# Altium schematic symbol library Oscillator - Crystal.SchLib: 422 symbols (part 6 of 7)
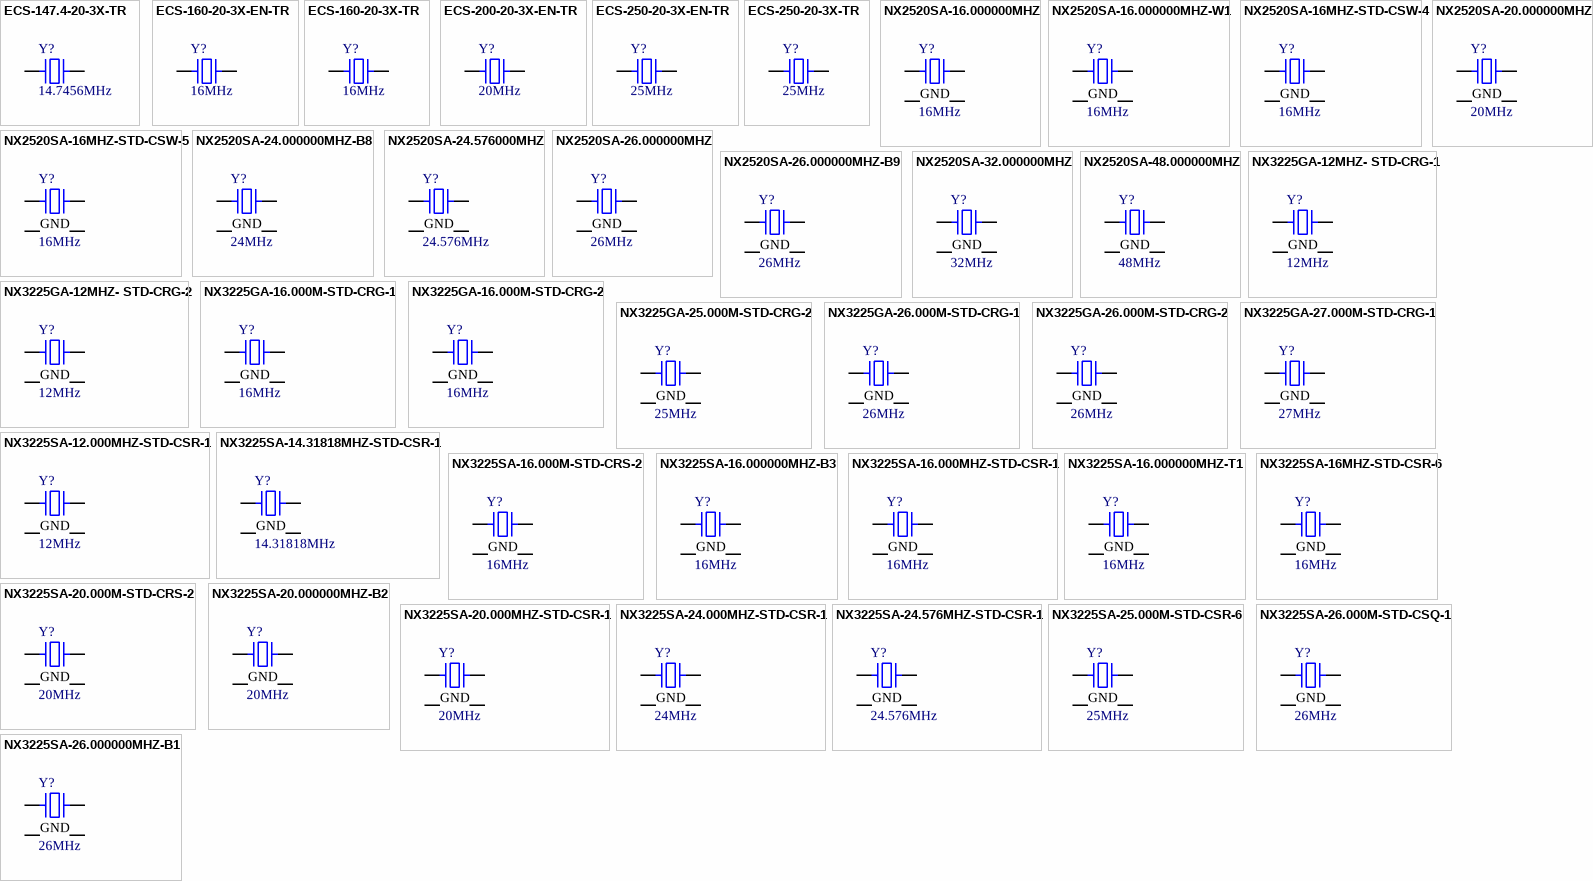
[diagram p15: symbols ECS-147.4-20-3X-TR to NX3225SA-26.000000MHZ-B1]

## NX2520SA-26.000000MHZ-B9
designator Y?, comment 26MHz
CRYSTAL 26.0000MHZ 10PF SMD; Part Number: NX2520SA-26.000000MHZ-B9; Manufacturer: NDK; Frequency Stability: 10ppm; ESR: 100 Ohm; Operating Mode: Fundamental; PartId: 8502; Supplier 1: Digi-Key; Supplier Part Number 1: 644-1095-2-ND; ComponentLink1Description: Datasheet; ComponentLink1URL: http://media.digikey.com/pdf/Data Sheets/NDK PDFs/NX2520SA-26.000000MHz-B9.pdf; ComponentLink2Description: Digi-Key Listing; ComponentLink2URL: http://www.digikey.com/product-detail/en/NX2520SA-26.000000MHZ-B9/644-1095-2-ND/1468336; Price: 0.7938; Type: MHz Crystal; Device Package: 4-SMD, No Lead (DFN, LCC); Frequency: 26MHz; Frequency Tolerance: 10ppm; Load Capacitance: 10pF
footprint NDK NX2520SA
pins: 1, 2 GND, 3, 4 GND

## NX2520SA-32.000000MHZ
designator Y?, comment 32MHz
CRYSTAL 32.0000MHZ 10PF SMD; Part Number: NX2520SA-32.000000MHZ; Manufacturer: NDK; Frequency Stability: 10ppm; ESR: 50 Ohm; Operating Mode: Fundamental; PartId: 8495; Supplier 1: Digi-Key; Supplier Part Number 1: 644-1065-2-ND; ComponentLink1Description: Datasheet; ComponentLink1URL: http://media.digikey.com/pdf/Data%20Sheets/NDK%20PDFs/NX2520SA.pdf; ComponentLink2Description: Digi-Key Listing; ComponentLink2URL: http://www.digikey.com/product-detail/en/NX2520SA-32.000000MHZ/644-1065-2-ND/1128847; Price: 0.7336; Type: MHz Crystal; Device Package: 4-SMD, No Lead (DFN, LCC); Frequency: 32MHz; Frequency Tolerance: 10ppm; Load Capacitance: 10pF
footprint NDK NX2520SA
pins: 1, 2 GND, 3, 4 GND

## NX2520SA-48.000000MHZ
designator Y?, comment 48MHz
CRYSTAL 48.0000MHZ 10PF SMD; Part Number: NX2520SA-48.000000MHZ; Manufacturer: NDK; Frequency Stability: 10ppm; ESR: 50 Ohm; Operating Mode: Fundamental; PartId: 8503; Supplier 1: Digi-Key; Supplier Part Number 1: 644-1068-2-ND; ComponentLink1Description: Datasheet; ComponentLink1URL: http://media.digikey.com/pdf/Data%20Sheets/NDK%20PDFs/NX2520SA.pdf; ComponentLink2Description: Digi-Key Listing; ComponentLink2URL: http://www.digikey.com/product-detail/en/NX2520SA-48.000000MHZ/644-1068-2-ND/1128850; Price: 0.7938; Type: MHz Crystal; Device Package: 4-SMD, No Lead (DFN, LCC); Frequency: 48MHz; Frequency Tolerance: 10ppm; Load Capacitance: 10pF
footprint NDK NX2520SA
pins: 1, 2 GND, 3, 4 GND

## NX3225GA-12MHZ- STD-CRG-1
designator Y?, comment 12MHz
CRYSTAL 12.0000MHZ 8PF SMD; Part Number: NX3225GA-12MHZ- STD-CRG-1; Manufacturer: NDK; Frequency Stability: 30ppm; Frequency Tolerance: 20ppm; ESR: 100 Ohm; Operating Mode: Fundamental; PartId: 8793; Supplier 1: Digi-Key; Supplier Part Number 1: 644-1172-2-ND; ComponentLink1Description: Datasheet; ComponentLink1URL: http://www.ndk.com/images/products/catalog/c_NX3225GA-STD-CRG-1_e.pdf; ComponentLink2Description: Digi-Key Listing; ComponentLink2URL: https://www.digikey.com/product-detail/en/NX3225GA-12MHZ-%20STD-CRG-1/644-1172-2-ND/3125631; Price: 0.3465; Type: MHz Crystal; Device Package: 4-SMD, No Lead (DFN, LCC); Series: NX3225GA; Frequency: 12MHz; Load Capacitance: 8pF
footprint ABRACON ABM8G
pins: 1, 2 GND, 3, 4 GND

## NX3225GA-12MHZ- STD-CRG-2
designator Y?, comment 12MHz
CRYSTAL 12.0000MHZ 8PF SMD; Part Number: NX3225GA-12MHZ- STD-CRG-2; Manufacturer: NDK; Frequency Stability: 30ppm; Frequency Tolerance: 20ppm; ESR: 100 Ohm; Operating Mode: Fundamental; PartId: 8788; Supplier 1: Digi-Key; Supplier Part Number 1: 644-1173-2-ND; ComponentLink1Description: Datasheet; ComponentLink1URL: http://www.ndk.com/images/products/catalog/c_NX3225GA-STD-CRG-2_e.pdf; ComponentLink2Description: Digi-Key Listing; ComponentLink2URL: https://www.digikey.com/product-detail/en/NX3225GA-12MHZ-%20STD-CRG-2/644-1173-2-ND/3125632; Price: 0.3465; Type: MHz Crystal; Device Package: 4-SMD, No Lead (DFN, LCC); Series: NX3225GA; Frequency: 12MHz; Load Capacitance: 8pF
footprint ABRACON ABM8G
pins: 1, 2 GND, 3, 4 GND

## NX3225GA-16.000M-STD-CRG-1
designator Y?, comment 16MHz
CRYSTAL 16.0000MHZ 8PF SMD; Part Number: NX3225GA-16.000M-STD-CRG-1; Manufacturer: NDK; Frequency Stability: 30ppm; Frequency Tolerance: 20ppm; ESR: 80 Ohm; Operating Mode: Fundamental; PartId: 8790; Supplier 1: Digi-Key; Supplier Part Number 1: 644-1157-2-ND; ComponentLink1Description: Datasheet; ComponentLink1URL: http://www.ndk.com/images/products/catalog/c_NX3225GA-STD-CRG-1_e.pdf; ComponentLink2Description: Digi-Key Listing; ComponentLink2URL: https://www.digikey.com/product-detail/en/NX3225GA-16.000M-STD-CRG-1/644-1157-2-ND/2261470; Price: 0.3465; Type: MHz Crystal; Device Package: 4-SMD, No Lead (DFN, LCC); Series: NX3225GA; Frequency: 16MHz; Load Capacitance: 8pF
footprint ABRACON ABM8G
pins: 1, 2 GND, 3, 4 GND

## NX3225GA-16.000M-STD-CRG-2
designator Y?, comment 16MHz
CRYSTAL 16.0000MHZ 8PF SMD; Part Number: NX3225GA-16.000M-STD-CRG-2; Manufacturer: NDK; Frequency Stability: 30ppm; Frequency Tolerance: 20ppm; ESR: 80 Ohm; Operating Mode: Fundamental; PartId: 8789; Supplier 1: Digi-Key; Supplier Part Number 1: 644-1175-2-ND; ComponentLink1Description: Datasheet; ComponentLink1URL: http://www.ndk.com/images/products/catalog/c_NX3225GA-STD-CRG-2_e.pdf; ComponentLink2Description: Digi-Key Listing; ComponentLink2URL: https://www.digikey.com/product-detail/en/NX3225GA-16.000M-STD-CRG-2/644-1175-2-ND/3125634; Price: 0.3465; Type: MHz Crystal; Device Package: 4-SMD, No Lead (DFN, LCC); Series: NX3225GA; Frequency: 16MHz; Load Capacitance: 8pF
footprint ABRACON ABM8G
pins: 1, 2 GND, 3, 4 GND

## NX3225GA-25.000M-STD-CRG-2
designator Y?, comment 25MHz
CRYSTAL 25.0000MHZ 8PF SMD; Part Number: NX3225GA-25.000M-STD-CRG-2; Manufacturer: NDK; Frequency Stability: 30ppm; Frequency Tolerance: 20ppm; ESR: 50 Ohm; Operating Mode: Fundamental; PartId: 8791; Supplier 1: Digi-Key; Supplier Part Number 1: 644-1259-2-ND; ComponentLink1Description: Datasheet; ComponentLink1URL: http://www.ndk.com/images/products/catalog/c_NX3225GA-STD-CRG-2_e.pdf; ComponentLink2Description: Digi-Key Listing; ComponentLink2URL: https://www.digikey.com/product-detail/en/NX3225GA-25.000M-STD-CRG-2/644-1259-2-ND/5022963; Price: 0.291; Type: MHz Crystal; Device Package: 4-SMD, No Lead (DFN, LCC); Series: NX3225GA; Frequency: 25MHz; Load Capacitance: 8pF
footprint ABRACON ABM8G
pins: 1, 2 GND, 3, 4 GND

## NX3225GA-26.000M-STD-CRG-1
designator Y?, comment 26MHz
CRYSTAL 26.0000MHZ 8PF SMD; Part Number: NX3225GA-26.000M-STD-CRG-1; Manufacturer: NDK; Frequency Stability: 30ppm; Frequency Tolerance: 20ppm; ESR: 50 Ohm; Operating Mode: Fundamental; PartId: 8795; Supplier 1: Digi-Key; Supplier Part Number 1: 644-1260-2-ND; ComponentLink1Description: Datasheet; ComponentLink1URL: http://www.ndk.com/images/products/catalog/c_NX3225GA-STD-CRG-1_e.pdf; ComponentLink2Description: Digi-Key Listing; ComponentLink2URL: https://www.digikey.com/product-detail/en/NX3225GA-26.000M-STD-CRG-1/644-1260-2-ND/5022964; Price: 0.291; Type: MHz Crystal; Device Package: 4-SMD, No Lead (DFN, LCC); Series: NX3225GA; Frequency: 26MHz; Load Capacitance: 8pF
footprint ABRACON ABM8G
pins: 1, 2 GND, 3, 4 GND

## NX3225GA-26.000M-STD-CRG-2
designator Y?, comment 26MHz
CRYSTAL 26.0000MHZ 8PF SMD; Part Number: NX3225GA-26.000M-STD-CRG-2; Manufacturer: NDK; Frequency Stability: 30ppm; Frequency Tolerance: 20ppm; ESR: 50 Ohm; Operating Mode: Fundamental; PartId: 8792; Supplier 1: Digi-Key; Supplier Part Number 1: 644-1261-2-ND; ComponentLink1Description: Datasheet; ComponentLink1URL: http://www.ndk.com/images/products/catalog/c_NX3225GA-STD-CRG-2_e.pdf; ComponentLink2Description: Digi-Key Listing; ComponentLink2URL: https://www.digikey.com/product-detail/en/NX3225GA-26.000M-STD-CRG-2/644-1261-2-ND/5022965; Price: 0.291; Type: MHz Crystal; Device Package: 4-SMD, No Lead (DFN, LCC); Series: NX3225GA; Frequency: 26MHz; Load Capacitance: 8pF
footprint ABRACON ABM8G
pins: 1, 2 GND, 3, 4 GND

## NX3225GA-27.000M-STD-CRG-1
designator Y?, comment 27MHz
CRYSTAL 27.0000MHZ 8PF SMD; Part Number: NX3225GA-27.000M-STD-CRG-1; Manufacturer: NDK; Frequency Stability: 30ppm; Frequency Tolerance: 20ppm; ESR: 50 Ohm; Operating Mode: Fundamental; PartId: 8794; Supplier 1: Digi-Key; Supplier Part Number 1: 644-1158-2-ND; ComponentLink1Description: Datasheet; ComponentLink1URL: http://www.ndk.com/images/products/catalog/c_NX3225GA-STD-CRG-1_e.pdf; ComponentLink2Description: Digi-Key Listing; ComponentLink2URL: https://www.digikey.com/product-detail/en/NX3225GA-27.000M-STD-CRG-1/644-1158-2-ND/2261471; Price: 0.3465; Type: MHz Crystal; Device Package: 4-SMD, No Lead (DFN, LCC); Series: NX3225GA; Frequency: 27MHz; Load Capacitance: 8pF
footprint ABRACON ABM8G
pins: 1, 2 GND, 3, 4 GND

## NX3225SA-12.000MHZ-STD-CSR-1
designator Y?, comment 12MHz
CRYSTAL 12.0000MHZ 8PF SMD; Part Number: NX3225SA-12.000MHZ-STD-CSR-1; Manufacturer: NDK; Frequency Stability: 15ppm; ESR: 100 Ohm; Operating Mode: Fundamental; PartId: 8505; Supplier 1: Digi-Key; Supplier Part Number 1: 644-1047-2-ND; ComponentLink1Description: Datasheet; ComponentLink1URL: http://media.digikey.com/pdf/Data%20Sheets/NDK%20PDFs/NX3225SA.pdf; ComponentLink2Description: Digi-Key Listing; ComponentLink2URL: http://www.digikey.com/product-detail/en/NX3225SA-12.000MHZ-STD-CSR-1/644-1047-2-ND/1128829; Price: 0.3799; Type: MHz Crystal; Device Package: 4-SMD, No Lead (DFN, LCC); Frequency: 12MHz; Frequency Tolerance: 15ppm; Load Capacitance: 8pF
footprint NDK NX3225SA
pins: 1, 2 GND, 3, 4 GND

## NX3225SA-14.31818MHZ-STD-CSR-1
designator Y?, comment 14.31818MHz
CRYSTAL 14.31818MHZ 8PF SMD; Part Number: NX3225SA-14.31818MHZ-STD-CSR-1; Manufacturer: NDK; Frequency Stability: 15ppm; ESR: 80 Ohm; Operating Mode: Fundamental; PartId: 8506; Supplier 1: Digi-Key; Supplier Part Number 1: 644-1048-2-ND; ComponentLink1Description: Datasheet; ComponentLink1URL: http://media.digikey.com/pdf/Data%20Sheets/NDK%20PDFs/NX3225SA.pdf; ComponentLink2Description: Digi-Key Listing; ComponentLink2URL: http://www.digikey.com/product-detail/en/NX3225SA-14.31818MHZ-STD-CSR-1/644-1048-2-ND/1128830; Price: 0.3799; Type: MHz Crystal; Device Package: 4-SMD, No Lead (DFN, LCC); Frequency: 14.31818MHz; Frequency Tolerance: 15ppm; Load Capacitance: 8pF
footprint NDK NX3225SA
pins: 1, 2 GND, 3, 4 GND

## NX3225SA-16.000M-STD-CRS-2
designator Y?, comment 16MHz
CRYSTAL 16.0000MHZ 8PF SMD; Part Number: NX3225SA-16.000M-STD-CRS-2; Manufacturer: NDK; Frequency Stability: 50ppm; Frequency Tolerance: 15ppm; ESR: 120 Ohm; Operating Mode: Fundamental; PartId: 8511; Supplier 1: Digi-Key; Supplier Part Number 1: 644-1129-2-ND; ComponentLink1Description: Datasheet; ComponentLink1URL: http://www.ndk.com/images/products/catalog/c_NX3225SA-STD-CRS-2_e.pdf; ComponentLink2Description: Digi-Key Listing; ComponentLink2URL: http://www.digikey.com/product-detail/en/NX3225SA-16.000M-STD-CRS-2/644-1129-2-ND/1788469; Price: 0.5365; Type: MHz Crystal; Device Package: 4-SMD, No Lead (DFN, LCC); Frequency: 16MHz; Load Capacitance: 8pF
footprint NDK NX3225SA
pins: 1, 2 GND, 3, 4 GND

## NX3225SA-16.000000MHZ-B3
designator Y?, comment 16MHz
CRYSTAL 16.0000MHZ 7.2PF SMD; Part Number: NX3225SA-16.000000MHZ-B3; Manufacturer: NDK; Frequency Stability: 15ppm; Frequency Tolerance: 10ppm; ESR: 80 Ohm; Operating Mode: Fundamental; PartId: 8508; Supplier 1: Digi-Key; Supplier Part Number 1: 644-1099-2-ND; ComponentLink1Description: Datasheet; ComponentLink1URL: http://media.digikey.com/pdf/Data Sheets/NDK PDFs/NX3225SA-16.000000MHz-B3.pdf; ComponentLink2Description: Digi-Key Listing; ComponentLink2URL: http://www.digikey.com/product-detail/en/NX3225SA-16.000000MHZ-B3/644-1099-2-ND/1468340; Price: 0.4654; Type: MHz Crystal; Device Package: 4-SMD, No Lead (DFN, LCC); Frequency: 16MHz; Load Capacitance: 7.2pF
footprint NDK NX3225SA
pins: 1, 2 GND, 3, 4 GND

## NX3225SA-16.000MHZ-STD-CSR-1
designator Y?, comment 16MHz
CRYSTAL 16.0000MHZ 8PF SMD; Part Number: NX3225SA-16.000MHZ-STD-CSR-1; Manufacturer: NDK; Frequency Stability: 15ppm; ESR: 80 Ohm; Operating Mode: Fundamental; PartId: 8509; Supplier 1: Digi-Key; Supplier Part Number 1: 644-1049-2-ND; ComponentLink1Description: Datasheet; ComponentLink1URL: http://media.digikey.com/pdf/Data%20Sheets/NDK%20PDFs/NX3225SA.pdf; ComponentLink2Description: Digi-Key Listing; ComponentLink2URL: http://www.digikey.com/product-detail/en/NX3225SA-16.000MHZ-STD-CSR-1/644-1049-2-ND/1128831; Price: 0.3799; Type: MHz Crystal; Device Package: 4-SMD, No Lead (DFN, LCC); Frequency: 16MHz; Frequency Tolerance: 15ppm; Load Capacitance: 8pF
footprint NDK NX3225SA
pins: 1, 2 GND, 3, 4 GND

## NX3225SA-16.000000MHZ-T1
designator Y?, comment 16MHz
CRYSTAL 16.0000MHZ 10PF SMD; Part Number: NX3225SA-16.000000MHZ-T1; Manufacturer: NDK; Frequency Stability: 10ppm; ESR: 60 Ohm; Operating Mode: Fundamental; PartId: 8507; Supplier 1: Digi-Key; Supplier Part Number 1: 644-1100-2-ND; ComponentLink1Description: Datasheet; ComponentLink1URL: http://media.digikey.com/pdf/Data Sheets/NDK PDFs/NX3225SA-16.000000MHz-T1.pdf; ComponentLink2Description: Digi-Key Listing; ComponentLink2URL: http://www.digikey.com/product-detail/en/NX3225SA-16.000000MHZ-T1/644-1100-2-ND/1468341; Price: 0.4654; Type: MHz Crystal; Device Package: 4-SMD, No Lead (DFN, LCC); Frequency: 16MHz; Frequency Tolerance: 10ppm; Load Capacitance: 10pF
footprint NDK NX3225SA
pins: 1, 2 GND, 3, 4 GND

## NX3225SA-16MHZ-STD-CSR-6
designator Y?, comment 16MHz
CRYSTAL 16.0000MHZ 8PF SMD; Part Number: NX3225SA-16MHZ-STD-CSR-6; Manufacturer: NDK; Frequency Stability: 25ppm; Frequency Tolerance: 15ppm; ESR: 80 Ohm; Operating Mode: Fundamental; PartId: 8510; Supplier 1: Digi-Key; Supplier Part Number 1: 644-1182-2-ND; ComponentLink1Description: Datasheet; ComponentLink1URL: http://www.ndk.com/images/products/catalog/c_NX3225SA-STD-CSR-6_e.pdf; ComponentLink2Description: Digi-Key Listing; ComponentLink2URL: http://www.digikey.com/product-detail/en/NX3225SA-16MHZ-STD-CSR-6/644-1182-2-ND/3125641; Price: 0.4495; Type: MHz Crystal; Device Package: 4-SMD, No Lead (DFN, LCC); Frequency: 16MHz; Load Capacitance: 8pF
footprint NDK NX3225SA
pins: 1, 2 GND, 3, 4 GND

## NX3225SA-20.000M-STD-CRS-2
designator Y?, comment 20MHz
CRYSTAL 20.0000MHZ 8PF SMD; Part Number: NX3225SA-20.000M-STD-CRS-2; Manufacturer: NDK; Frequency Stability: 50ppm; Frequency Tolerance: 15ppm; ESR: 100 Ohm; Operating Mode: Fundamental; PartId: 8514; Supplier 1: Digi-Key; Supplier Part Number 1: 644-1130-2-ND; ComponentLink1Description: Datasheet; ComponentLink1URL: http://www.ndk.com/images/products/catalog/c_NX3225SA-STD-CRS-2_e.pdf; ComponentLink2Description: Digi-Key Listing; ComponentLink2URL: http://www.digikey.com/product-detail/en/NX3225SA-20.000M-STD-CRS-2/644-1130-2-ND/1788470; Price: 0.5794; Type: MHz Crystal; Device Package: 4-SMD, No Lead (DFN, LCC); Frequency: 20MHz; Load Capacitance: 8pF
footprint NDK NX3225SA
pins: 1, 2 GND, 3, 4 GND

## NX3225SA-20.000000MHZ-B2
designator Y?, comment 20MHz
CRYSTAL 20.0000MHZ 7.2PF SMD; Part Number: NX3225SA-20.000000MHZ-B2; Manufacturer: NDK; Frequency Stability: 15ppm; Frequency Tolerance: 10ppm; ESR: 80 Ohm; Operating Mode: Fundamental; PartId: 8512; Supplier 1: Digi-Key; Supplier Part Number 1: 644-1098-2-ND; ComponentLink1Description: Datasheet; ComponentLink1URL: http://media.digikey.com/pdf/Data Sheets/NDK PDFs/NX3225SA-20.000000MHz-B2.pdf; ComponentLink2Description: Digi-Key Listing; ComponentLink2URL: http://www.digikey.com/product-detail/en/NX3225SA-20.000000MHZ-B2/644-1098-2-ND/1468339; Price: 0.4654; Type: MHz Crystal; Device Package: 4-SMD, No Lead (DFN, LCC); Frequency: 20MHz; Load Capacitance: 7.2pF
footprint NDK NX3225SA
pins: 1, 2 GND, 3, 4 GND

## NX3225SA-20.000MHZ-STD-CSR-1
designator Y?, comment 20MHz
CRYSTAL 20.0000MHZ 8PF SMD; Part Number: NX3225SA-20.000MHZ-STD-CSR-1; Manufacturer: NDK; Frequency Stability: 15ppm; ESR: 50 Ohm; Operating Mode: Fundamental; PartId: 8513; Supplier 1: Digi-Key; Supplier Part Number 1: 644-1050-2-ND; ComponentLink1Description: Datasheet; ComponentLink1URL: http://media.digikey.com/pdf/Data%20Sheets/NDK%20PDFs/NX3225SA.pdf; ComponentLink2Description: Digi-Key Listing; ComponentLink2URL: http://www.digikey.com/product-detail/en/NX3225SA-20.000MHZ-STD-CSR-1/644-1050-2-ND/1128832; Price: 0.3799; Type: MHz Crystal; Device Package: 4-SMD, No Lead (DFN, LCC); Frequency: 20MHz; Frequency Tolerance: 15ppm; Load Capacitance: 8pF
footprint NDK NX3225SA
pins: 1, 2 GND, 3, 4 GND

## NX3225SA-24.000MHZ-STD-CSR-1
designator Y?, comment 24MHz
CRYSTAL 24.0000MHZ 8PF SMD; Part Number: NX3225SA-24.000MHZ-STD-CSR-1; Manufacturer: NDK; Frequency Stability: 15ppm; ESR: 50 Ohm; Operating Mode: Fundamental; PartId: 8515; Supplier 1: Digi-Key; Supplier Part Number 1: 644-1052-2-ND; ComponentLink1Description: Datasheet; ComponentLink1URL: http://media.digikey.com/pdf/Data%20Sheets/NDK%20PDFs/NX3225SA.pdf; ComponentLink2Description: Digi-Key Listing; ComponentLink2URL: http://www.digikey.com/product-detail/en/NX3225SA-24.000MHZ-STD-CSR-1/644-1052-2-ND/1128834; Price: 0.3799; Type: MHz Crystal; Device Package: 4-SMD, No Lead (DFN, LCC); Frequency: 24MHz; Frequency Tolerance: 15ppm; Load Capacitance: 8pF
footprint NDK NX3225SA
pins: 1, 2 GND, 3, 4 GND

## NX3225SA-24.576MHZ-STD-CSR-1
designator Y?, comment 24.576MHz
CRYSTAL 24.5760MHZ 8PF SMD; Part Number: NX3225SA-24.576MHZ-STD-CSR-1; Manufacturer: NDK; Frequency Stability: 15ppm; ESR: 50 Ohm; Operating Mode: Fundamental; PartId: 8516; Supplier 1: Digi-Key; Supplier Part Number 1: 644-1053-2-ND; ComponentLink1Description: Datasheet; ComponentLink1URL: http://media.digikey.com/pdf/Data%20Sheets/NDK%20PDFs/NX3225SA.pdf; ComponentLink2Description: Digi-Key Listing; ComponentLink2URL: http://www.digikey.com/product-detail/en/NX3225SA-24.576MHZ-STD-CSR-1/644-1053-2-ND/1128835; Price: 0.3799; Type: MHz Crystal; Device Package: 4-SMD, No Lead (DFN, LCC); Frequency: 24.576MHz; Frequency Tolerance: 15ppm; Load Capacitance: 8pF
footprint NDK NX3225SA
pins: 1, 2 GND, 3, 4 GND

## NX3225SA-25.000M-STD-CSR-6
designator Y?, comment 25MHz
CRYSTAL 25.0000MHZ 8PF SMD; Part Number: NX3225SA-25.000M-STD-CSR-6; Manufacturer: NDK; Frequency Stability: 25ppm; Frequency Tolerance: 15ppm; ESR: 50 Ohm; Operating Mode: Fundamental; PartId: 8517; Supplier 1: Digi-Key; Supplier Part Number 1: 644-1268-2-ND; ComponentLink1Description: Datasheet; ComponentLink1URL: http://www.ndk.com/images/products/catalog/c_NX3225SA-STD-CSR-6_e.pdf; ComponentLink2Description: Digi-Key Listing; ComponentLink2URL: http://www.digikey.com/product-detail/en/NX3225SA-25.000M-STD-CSR-6/644-1268-2-ND/2259775; Price: 0.3842; Type: MHz Crystal; Device Package: 4-SMD, No Lead (DFN, LCC); Frequency: 25MHz; Load Capacitance: 8pF
footprint NDK NX3225SA
pins: 1, 2 GND, 3, 4 GND

## NX3225SA-26.000M-STD-CSQ-1
designator Y?, comment 26MHz
CRYSTAL 26.0000MHZ 8PF SMD; Part Number: NX3225SA-26.000M-STD-CSQ-1; Manufacturer: NDK; Frequency Stability: 10ppm; ESR: 50 Ohm; Operating Mode: Fundamental; PartId: 8521; Supplier 1: Digi-Key; Supplier Part Number 1: 644-1269-2-ND; ComponentLink1Description: Datasheet; ComponentLink1URL: http://www.ndk.com/images/products/catalog/c_NX3225SA-STD-CSQ-1_e.pdf; ComponentLink2Description: Digi-Key Listing; ComponentLink2URL: http://www.digikey.com/product-detail/en/NX3225SA-26.000M-STD-CSQ-1/644-1269-2-ND/5022972; Price: 0.3842; Type: MHz Crystal; Device Package: 4-SMD, No Lead (DFN, LCC); Frequency: 26MHz; Frequency Tolerance: 10ppm; Load Capacitance: 8pF
footprint NDK NX3225SA
pins: 1, 2 GND, 3, 4 GND

## NX3225SA-26.000000MHZ-B1
designator Y?, comment 26MHz
CRYSTAL 26.0000MHZ 10PF SMD; Part Number: NX3225SA-26.000000MHZ-B1; Manufacturer: NDK; Frequency Stability: 10ppm; ESR: 50 Ohm; Operating Mode: Fundamental; PartId: 8518; Supplier 1: Digi-Key; Supplier Part Number 1: 644-1101-2-ND; ComponentLink1Description: Datasheet; ComponentLink1URL: http://media.digikey.com/pdf/Data Sheets/NDK PDFs/NX3225SA-26.000000MHz-B1.pdf; ComponentLink2Description: Digi-Key Listing; ComponentLink2URL: http://www.digikey.com/product-detail/en/NX3225SA-26.000000MHZ-B1/644-1101-2-ND/1468342; Price: 0.4654; Type: MHz Crystal; Device Package: 4-SMD, No Lead (DFN, LCC); Frequency: 26MHz; Frequency Tolerance: 10ppm; Load Capacitance: 10pF
footprint NDK NX3225SA
pins: 1, 2 GND, 3, 4 GND

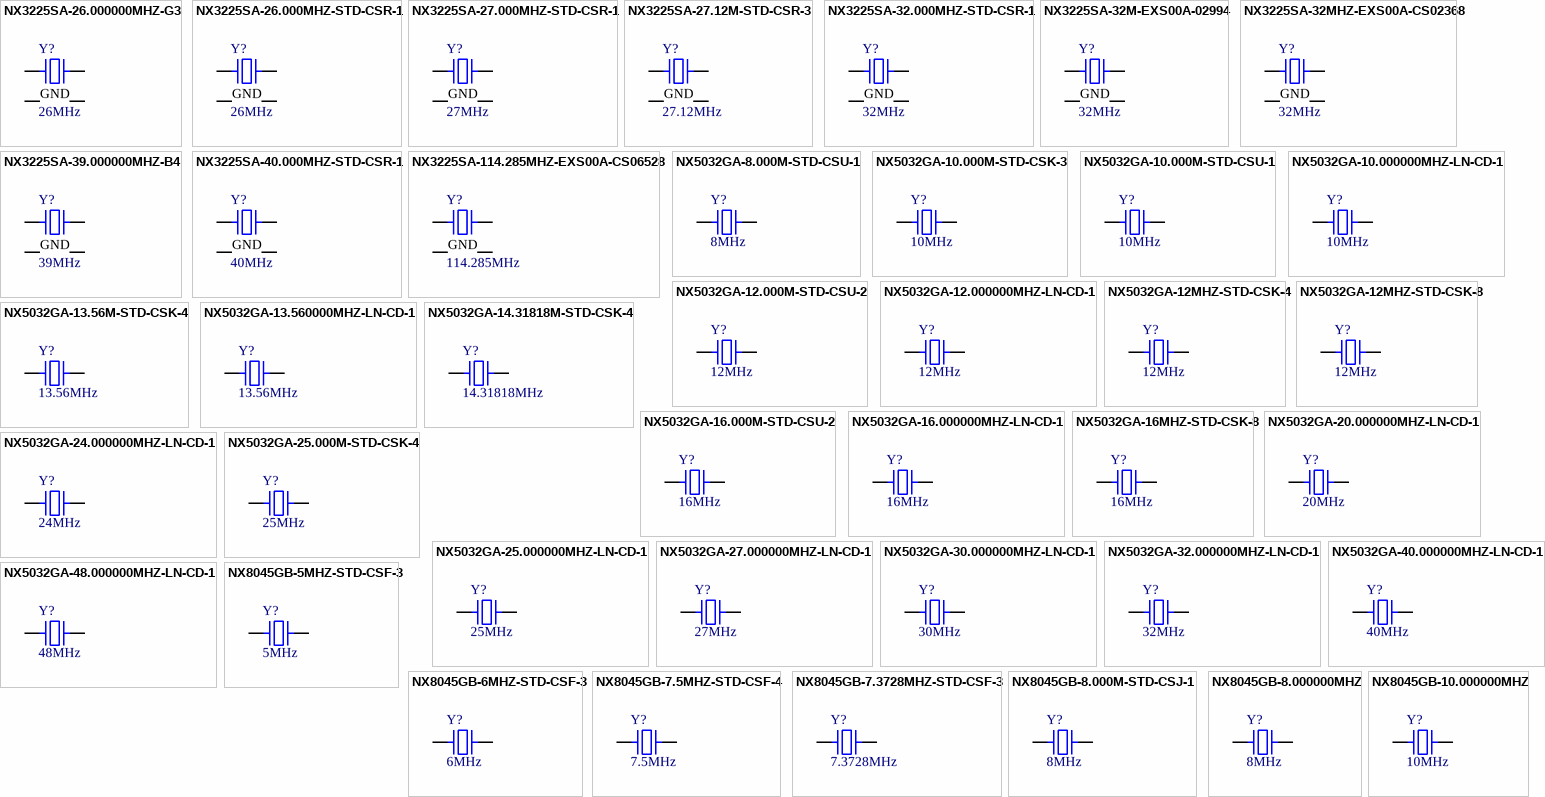
[diagram p9: symbols NX3225SA-26.000000MHZ-G3 to NX8045GB-10.000000MHZ]

## NX3225SA-26.000000MHZ-G3
designator Y?, comment 26MHz
CRYSTAL 26.0000MHZ 7.36PF SMD; Part Number: NX3225SA-26.000000MHZ-G3; Manufacturer: NDK; Frequency Stability: 10ppm; ESR: 50 Ohm; Operating Mode: Fundamental; PartId: 8519; Supplier 1: Digi-Key; Supplier Part Number 1: 644-1102-2-ND; ComponentLink1Description: Datasheet; ComponentLink1URL: http://media.digikey.com/pdf/Data Sheets/NDK PDFs/NX3225SA-26.000000MHz-G3.pdf; ComponentLink2Description: Digi-Key Listing; ComponentLink2URL: http://www.digikey.com/product-detail/en/NX3225SA-26.000000MHZ-G3/644-1102-2-ND/1468343; Price: 0.4654; Type: MHz Crystal; Device Package: 4-SMD, No Lead (DFN, LCC); Frequency: 26MHz; Frequency Tolerance: 10ppm; Load Capacitance: 7.36pF
footprint NDK NX3225SA
pins: 1, 2 GND, 3, 4 GND

## NX3225SA-26.000MHZ-STD-CSR-1
designator Y?, comment 26MHz
CRYSTAL 26.0000MHZ 8PF SMD; Part Number: NX3225SA-26.000MHZ-STD-CSR-1; Manufacturer: NDK; Frequency Stability: 15ppm; ESR: 50 Ohm; Operating Mode: Fundamental; PartId: 8520; Supplier 1: Digi-Key; Supplier Part Number 1: 644-1054-2-ND; ComponentLink1Description: Datasheet; ComponentLink1URL: http://media.digikey.com/pdf/Data%20Sheets/NDK%20PDFs/NX3225SA.pdf; ComponentLink2Description: Digi-Key Listing; ComponentLink2URL: http://www.digikey.com/product-detail/en/NX3225SA-26.000MHZ-STD-CSR-1/644-1054-2-ND/1128836; Price: 0.3799; Type: MHz Crystal; Device Package: 4-SMD, No Lead (DFN, LCC); Frequency: 26MHz; Frequency Tolerance: 15ppm; Load Capacitance: 8pF
footprint NDK NX3225SA
pins: 1, 2 GND, 3, 4 GND

## NX3225SA-27.000MHZ-STD-CSR-1
designator Y?, comment 27MHz
CRYSTAL 27.0000MHZ 8PF SMD; Part Number: NX3225SA-27.000MHZ-STD-CSR-1; Manufacturer: NDK; Frequency Stability: 15ppm; ESR: 50 Ohm; Operating Mode: Fundamental; PartId: 8522; Supplier 1: Digi-Key; Supplier Part Number 1: 644-1055-2-ND; ComponentLink1Description: Datasheet; ComponentLink1URL: http://media.digikey.com/pdf/Data%20Sheets/NDK%20PDFs/NX3225SA.pdf; ComponentLink2Description: Digi-Key Listing; ComponentLink2URL: http://www.digikey.com/product-detail/en/NX3225SA-27.000MHZ-STD-CSR-1/644-1055-2-ND/1128837; Price: 0.3799; Type: MHz Crystal; Device Package: 4-SMD, No Lead (DFN, LCC); Frequency: 27MHz; Frequency Tolerance: 15ppm; Load Capacitance: 8pF
footprint NDK NX3225SA
pins: 1, 2 GND, 3, 4 GND

## NX3225SA-27.12M-STD-CSR-3
designator Y?, comment 27.12MHz
CRYSTAL 27.1200MHZ 8PF SMD; Part Number: NX3225SA-27.12M-STD-CSR-3; Manufacturer: NDK; Frequency Stability: 15ppm; ESR: 50 Ohm; Operating Mode: Fundamental; PartId: 8523; Supplier 1: Digi-Key; Supplier Part Number 1: 644-1237-2-ND; ComponentLink1Description: Datasheet; ComponentLink1URL: http://www.ndk.com/images/products/catalog/c_NX3225SA-STD-CSR-3_e.pdf; ComponentLink2Description: Digi-Key Listing; ComponentLink2URL: http://www.digikey.com/product-detail/en/NX3225SA-27.12M-STD-CSR-3/644-1237-2-ND/4914451; Price: 0.3842; Type: MHz Crystal; Device Package: 4-SMD, No Lead (DFN, LCC); Frequency: 27.12MHz; Frequency Tolerance: 15ppm; Load Capacitance: 8pF
footprint NDK NX3225SA
pins: 1, 2 GND, 3, 4 GND

## NX3225SA-32.000MHZ-STD-CSR-1
designator Y?, comment 32MHz
CRYSTAL 32.0000MHZ 8PF SMD; Part Number: NX3225SA-32.000MHZ-STD-CSR-1; Manufacturer: NDK; Frequency Stability: 15ppm; ESR: 50 Ohm; Operating Mode: Fundamental; PartId: 8525; Supplier 1: Digi-Key; Supplier Part Number 1: 644-1056-2-ND; ComponentLink1Description: Datasheet; ComponentLink1URL: http://media.digikey.com/pdf/Data%20Sheets/NDK%20PDFs/NX3225SA.pdf; ComponentLink2Description: Digi-Key Listing; ComponentLink2URL: http://www.digikey.com/product-detail/en/NX3225SA-32.000MHZ-STD-CSR-1/644-1056-2-ND/1128838; Price: 0.3799; Type: MHz Crystal; Device Package: 4-SMD, No Lead (DFN, LCC); Frequency: 32MHz; Frequency Tolerance: 15ppm; Load Capacitance: 8pF
footprint NDK NX3225SA
pins: 1, 2 GND, 3, 4 GND

## NX3225SA-32M-EXS00A-02994
designator Y?, comment 32MHz
CRYSTAL 32.0000MHZ 16PF SMD; Part Number: NX3225SA-32M-EXS00A-02994; Manufacturer: NDK; Frequency Stability: 15ppm; Frequency Tolerance: 10ppm; ESR: 50 Ohm; Operating Mode: Fundamental; PartId: 8524; Supplier 1: Digi-Key; Supplier Part Number 1: 644-1251-2-ND; ComponentLink1Description: Datasheet; ComponentLink1URL: http://media.digikey.com/pdf/Data%20Sheets/NDK%20PDFs/NX3225SA-32M-EXS00A-02994.pdf; ComponentLink2Description: Digi-Key Listing; ComponentLink2URL: http://www.digikey.com/product-detail/en/NX3225SA-32M-EXS00A-02994/644-1251-2-ND/5015627; Price: 0.3842; Type: MHz Crystal; Device Package: 4-SMD, No Lead (DFN, LCC); Frequency: 32MHz; Load Capacitance: 16pF
footprint NDK NX3225SA
pins: 1, 2 GND, 3, 4 GND

## NX3225SA-32MHZ-EXS00A-CS02368
designator Y?, comment 32MHz
CRYSTAL 32.0000MHZ 9PF SMD; Part Number: NX3225SA-32MHZ-EXS00A-CS02368; Manufacturer: NDK; Frequency Stability: 16ppm; Frequency Tolerance: 10ppm; ESR: 50 Ohm; Operating Mode: Fundamental; PartId: 8526; Supplier 1: Digi-Key; Supplier Part Number 1: 644-1208-2-ND; ComponentLink1Description: Datasheet; ComponentLink1URL: http://media.digikey.com/pdf/Data%20Sheets/NDK%20PDFs/NX3225SA%20EXS00A-CS02368.pdf; ComponentLink2Description: Digi-Key Listing; ComponentLink2URL: http://www.digikey.com/product-detail/en/NX3225SA-32MHZ-EXS00A-CS02368/644-1208-2-ND/3946316; Price: 0.4176; Type: MHz Crystal; Device Package: 4-SMD, No Lead (DFN, LCC); Frequency: 32MHz; Load Capacitance: 9pF
footprint NDK NX3225SA
pins: 1, 2 GND, 3, 4 GND

## NX3225SA-39.000000MHZ-B4
designator Y?, comment 39MHz
CRYSTAL 39.0000MHZ 12PF SMD; Part Number: NX3225SA-39.000000MHZ-B4; Manufacturer: NDK; Frequency Stability: 10ppm; ESR: 50 Ohm; Operating Mode: Fundamental; PartId: 8527; Supplier 1: Digi-Key; Supplier Part Number 1: 644-1104-2-ND; ComponentLink1Description: Datasheet; ComponentLink1URL: http://media.digikey.com/pdf/Data Sheets/NDK PDFs/NX3225SA-39.000000MHz-B4.pdf; ComponentLink2Description: Digi-Key Listing; ComponentLink2URL: http://www.digikey.com/product-detail/en/NX3225SA-39.000000MHZ-B4/644-1104-2-ND/1468345; Price: 0.4654; Type: MHz Crystal; Device Package: 4-SMD, No Lead (DFN, LCC); Frequency: 39MHz; Frequency Tolerance: 10ppm; Load Capacitance: 12pF
footprint NDK NX3225SA
pins: 1, 2 GND, 3, 4 GND

## NX3225SA-40.000MHZ-STD-CSR-1
designator Y?, comment 40MHz
CRYSTAL 40.0000MHZ 8PF SMD; Part Number: NX3225SA-40.000MHZ-STD-CSR-1; Manufacturer: NDK; Frequency Stability: 15ppm; ESR: 50 Ohm; Operating Mode: Fundamental; PartId: 8528; Supplier 1: Digi-Key; Supplier Part Number 1: 644-1057-2-ND; ComponentLink1Description: Datasheet; ComponentLink1URL: http://media.digikey.com/pdf/Data%20Sheets/NDK%20PDFs/NX3225SA.pdf; ComponentLink2Description: Digi-Key Listing; ComponentLink2URL: http://www.digikey.com/product-detail/en/NX3225SA-40.000MHZ-STD-CSR-1/644-1057-2-ND/1128839; Price: 0.4176; Type: MHz Crystal; Device Package: 4-SMD, No Lead (DFN, LCC); Frequency: 40MHz; Frequency Tolerance: 15ppm; Load Capacitance: 8pF
footprint NDK NX3225SA
pins: 1, 2 GND, 3, 4 GND

## NX3225SA-114.285MHZ-EXS00A-CS06528
designator Y?, comment 114.285MHz
CRYSTAL 114.2850MHZ 18PF SMD; Part Number: NX3225SA-114.285MHZ-EXS00A-CS06528; Manufacturer: NDK; Frequency Stability: 20ppm; ESR: 80 Ohm; Operating Mode: 3rd Overtone; PartId: 8504; Supplier 1: Digi-Key; Supplier Part Number 1: 644-1201-2-ND; ComponentLink1Description: Datasheet; ComponentLink1URL: http://media.digikey.com/pdf/Data%20Sheets/NDK%20PDFs/NX3225SA-114.285MHZ-EXS00A-CS06528.pdf; ComponentLink2Description: Digi-Key Listing; ComponentLink2URL: http://www.digikey.com/product-detail/en/NX3225SA-114.285MHZ-EXS00A-CS06528/644-1201-2-ND/3894083; Price: 2.6201; Type: MHz Crystal; Device Package: 4-SMD, No Lead (DFN, LCC); Frequency: 114.285MHz; Frequency Tolerance: 20ppm; Load Capacitance: 18pF
footprint NDK NX3225SA
pins: 1, 2 GND, 3, 4 GND

## NX5032GA-8.000M-STD-CSU-1
designator Y?, comment 8MHz
CRYSTAL 8.0000MHZ 8PF SMD; Part Number: NX5032GA-8.000M-STD-CSU-1; Manufacturer: NDK; Frequency Stability: 150ppm; Frequency Tolerance: 50ppm; ESR: 300 Ohm; Operating Mode: Fundamental; PartId: 8473; Supplier 1: Digi-Key; Supplier Part Number 1: 644-1132-2-ND; ComponentLink1Description: Datasheet; ComponentLink1URL: http://www.ndk.com/images/products/catalog/c_NX5032GA-STD-CSU-2_e.pdf; ComponentLink2Description: Digi-Key Listing; ComponentLink2URL: http://www.digikey.com/product-detail/en/NX5032GA-8.000M-STD-CSU-1/644-1132-2-ND/1788472; Price: 0.63; Type: MHz Crystal; Device Package: 2-SMD; Frequency: 8MHz; Load Capacitance: 8pF
footprint NDK NX5032GA
pins: 1, 2

## NX5032GA-10.000M-STD-CSK-3
designator Y?, comment 10MHz
CRYSTAL 10.0000MHZ 8PF SMD; Part Number: NX5032GA-10.000M-STD-CSK-3; Manufacturer: NDK; Frequency Stability: 30ppm; Frequency Tolerance: 20ppm; ESR: 100 Ohm; Operating Mode: Fundamental; PartId: 8482; Supplier 1: Digi-Key; Supplier Part Number 1: 644-1272-2-ND; ComponentLink1Description: Datasheet; ComponentLink1URL: http://www.ndk.com/images/products/catalog/c_NX5032GA-STD-CSK-4_e.pdf; ComponentLink2Description: Digi-Key Listing; ComponentLink2URL: http://www.digikey.com/product-detail/en/NX5032GA-10.000M-STD-CSK-3/644-1272-2-ND/5022975; Price: 0.3664; Type: MHz Crystal; Device Package: 2-SMD, No Lead (DFN, LCC); Frequency: 10MHz; Load Capacitance: 8pF
footprint NDK NX5032GA
pins: 1, 2

## NX5032GA-10.000M-STD-CSU-1
designator Y?, comment 10MHz
CRYSTAL 10.0000MHZ 8PF SMD; Part Number: NX5032GA-10.000M-STD-CSU-1; Manufacturer: NDK; Frequency Stability: 150ppm; Frequency Tolerance: 50ppm; ESR: 150 Ohm; Operating Mode: Fundamental; PartId: 8474; Supplier 1: Digi-Key; Supplier Part Number 1: 644-1133-2-ND; ComponentLink1Description: Datasheet; ComponentLink1URL: http://www.ndk.com/images/products/catalog/c_NX5032GA-STD-CSU-2_e.pdf; ComponentLink2Description: Digi-Key Listing; ComponentLink2URL: http://www.digikey.com/product-detail/en/NX5032GA-10.000M-STD-CSU-1/644-1133-2-ND/1788473; Price: 0.63; Type: MHz Crystal; Device Package: 2-SMD; Frequency: 10MHz; Load Capacitance: 8pF
footprint NDK NX5032GA
pins: 1, 2

## NX5032GA-10.000000MHZ-LN-CD-1
designator Y?, comment 10MHz
CRYSTAL 10.0000MHZ 8PF SMD; Part Number: NX5032GA-10.000000MHZ-LN-CD-1; Manufacturer: NDK; Frequency Stability: 50ppm; ESR: 120 Ohm; Operating Mode: Fundamental; PartId: 8470; Supplier 1: Digi-Key; Supplier Part Number 1: 644-1033-2-ND; ComponentLink1Description: Datasheet; ComponentLink1URL: http://media.digikey.com/pdf/Data%20Sheets/NDK%20PDFs/NX5032GA.pdf; ComponentLink2Description: Digi-Key Listing; ComponentLink2URL: http://www.digikey.com/product-detail/en/NX5032GA-10.000000MHZ-LN-CD-1/644-1033-2-ND/1128815; Price: 0.32; Type: MHz Crystal; Device Package: 2-SMD, No Lead (DFN, LCC); Frequency: 10MHz; Frequency Tolerance: 50ppm; Load Capacitance: 8pF
footprint NDK NX5032GA
pins: 1, 2

## NX5032GA-12.000M-STD-CSU-2
designator Y?, comment 12MHz
CRYSTAL 12.0000MHZ 8PF SMD; Part Number: NX5032GA-12.000M-STD-CSU-2; Manufacturer: NDK; Frequency Stability: 150ppm; Frequency Tolerance: 50ppm; ESR: 150 Ohm; Operating Mode: Fundamental; PartId: 8484; Supplier 1: Digi-Key; Supplier Part Number 1: 644-1134-2-ND; ComponentLink1Description: Datasheet; ComponentLink1URL: http://www.ndk.com/images/products/catalog/c_NX5032GA-STD-CSU-2_e.pdf; ComponentLink2Description: Digi-Key Listing; ComponentLink2URL: http://www.digikey.com/product-detail/en/NX5032GA-12.000M-STD-CSU-2/644-1134-2-ND/1788474; Price: 0.63; Type: MHz Crystal; Device Package: 2-SMD; Frequency: 12MHz; Load Capacitance: 8pF
footprint NDK NX5032GA
pins: 1, 2

## NX5032GA-12.000000MHZ-LN-CD-1
designator Y?, comment 12MHz
CRYSTAL 12.0000MHZ 8PF SMD; Part Number: NX5032GA-12.000000MHZ-LN-CD-1; Manufacturer: NDK; Frequency Stability: 50ppm; ESR: 120 Ohm; Operating Mode: Fundamental; PartId: 8467; Supplier 1: Digi-Key; Supplier Part Number 1: 644-1034-2-ND; ComponentLink1Description: Datasheet; ComponentLink1URL: http://media.digikey.com/pdf/Data%20Sheets/NDK%20PDFs/NX5032GA.pdf; ComponentLink2Description: Digi-Key Listing; ComponentLink2URL: http://www.digikey.com/product-detail/en/NX5032GA-12.000000MHZ-LN-CD-1/644-1034-2-ND/1128816; Price: 0.32; Type: MHz Crystal; Device Package: 2-SMD, No Lead (DFN, LCC); Frequency: 12MHz; Frequency Tolerance: 50ppm; Load Capacitance: 8pF
footprint NDK NX5032GA
pins: 1, 2

## NX5032GA-12MHZ-STD-CSK-4
designator Y?, comment 12MHz
CRYSTAL 12.0000MHZ 8PF SMD; Part Number: NX5032GA-12MHZ-STD-CSK-4; Manufacturer: NDK; Frequency Stability: 30ppm; Frequency Tolerance: 20ppm; ESR: 100 Ohm; Operating Mode: Fundamental; PartId: 8480; Supplier 1: Digi-Key; Supplier Part Number 1: 644-1185-2-ND; ComponentLink1Description: Datasheet; ComponentLink1URL: http://www.ndk.com/images/products/catalog/c_NX5032GA-STD-CSK-4_e.pdf; ComponentLink2Description: Digi-Key Listing; ComponentLink2URL: http://www.digikey.com/product-detail/en/NX5032GA-12MHZ-STD-CSK-4/644-1185-2-ND/3125644; Price: 0.375; Type: MHz Crystal; Device Package: 2-SMD, No Lead (DFN, LCC); Frequency: 12MHz; Load Capacitance: 8pF
footprint NDK NX5032GA
pins: 1, 2

## NX5032GA-12MHZ-STD-CSK-8
designator Y?, comment 12MHz
CRYSTAL 12.0000MHZ 8PF SMD; Part Number: NX5032GA-12MHZ-STD-CSK-8; Manufacturer: NDK; Frequency Stability: 50ppm; Frequency Tolerance: 30ppm; ESR: 120 Ohm; Operating Mode: Fundamental; PartId: 8485; Supplier 1: Digi-Key; Supplier Part Number 1: 644-1186-2-ND; ComponentLink1Description: Datasheet; ComponentLink1URL: http://www.ndk.com/images/products/catalog/c_NX5032GA-STD-CSK-8_e.pdf; ComponentLink2Description: Digi-Key Listing; ComponentLink2URL: http://www.digikey.com/product-detail/en/NX5032GA-12MHZ-STD-CSK-8/644-1186-2-ND/3125645; Price: 0.375; Type: MHz Crystal; Device Package: 2-SMD, No Lead (DFN, LCC); Frequency: 12MHz; Load Capacitance: 8pF
footprint NDK NX5032GA
pins: 1, 2

## NX5032GA-13.56M-STD-CSK-4
designator Y?, comment 13.56MHz
CRYSTAL 13.5600MHZ 8PF SMD; Part Number: NX5032GA-13.56M-STD-CSK-4; Manufacturer: NDK; Frequency Stability: 30ppm; Frequency Tolerance: 20ppm; ESR: 100 Ohm; Operating Mode: Fundamental; PartId: 8483; Supplier 1: Digi-Key; Supplier Part Number 1: 644-1244-2-ND; ComponentLink1Description: Datasheet; ComponentLink1URL: http://www.ndk.com/images/products/catalog/c_NX5032GA-STD-CSK-4_e.pdf; ComponentLink2Description: Digi-Key Listing; ComponentLink2URL: http://www.digikey.com/product-detail/en/NX5032GA-13.56M-STD-CSK-4/644-1244-2-ND/4914458; Price: 0.3664; Type: MHz Crystal; Device Package: 2-SMD, No Lead (DFN, LCC); Frequency: 13.56MHz; Load Capacitance: 8pF
footprint NDK NX5032GA
pins: 1, 2

## NX5032GA-13.560000MHZ-LN-CD-1
designator Y?, comment 13.56MHz
CRYSTAL 13.5600MHZ 8PF SMD; Part Number: NX5032GA-13.560000MHZ-LN-CD-1; Manufacturer: NDK; Frequency Stability: 50ppm; ESR: 120 Ohm; Operating Mode: Fundamental; PartId: 8477; Supplier 1: Digi-Key; Supplier Part Number 1: 644-1036-2-ND; ComponentLink1Description: Datasheet; ComponentLink1URL: http://media.digikey.com/pdf/Data%20Sheets/NDK%20PDFs/NX5032GA.pdf; ComponentLink2Description: Digi-Key Listing; ComponentLink2URL: http://www.digikey.com/product-detail/en/NX5032GA-13.560000MHZ-LN-CD-1/644-1036-2-ND/1128818; Price: 0.32; Type: MHz Crystal; Device Package: 2-SMD, No Lead (DFN, LCC); Frequency: 13.56MHz; Frequency Tolerance: 50ppm; Load Capacitance: 8pF
footprint NDK NX5032GA
pins: 1, 2

## NX5032GA-14.31818M-STD-CSK-4
designator Y?, comment 14.31818MHz
CRYSTAL 14.31818MHZ 8PF SMD; Part Number: NX5032GA-14.31818M-STD-CSK-4; Manufacturer: NDK; Frequency Stability: 30ppm; Frequency Tolerance: 20ppm; ESR: 100 Ohm; Operating Mode: Fundamental; PartId: 8486; Supplier 1: Digi-Key; Supplier Part Number 1: 644-1245-2-ND; ComponentLink1Description: Datasheet; ComponentLink1URL: http://www.ndk.com/images/products/catalog/c_NX5032GA-STD-CSK-4_e.pdf; ComponentLink2Description: Digi-Key Listing; ComponentLink2URL: http://www.digikey.com/product-detail/en/NX5032GA-14.31818M-STD-CSK-4/644-1245-2-ND/4914459; Price: 0.3664; Type: MHz Crystal; Device Package: 2-SMD, No Lead (DFN, LCC); Frequency: 14.31818MHz; Load Capacitance: 8pF
footprint NDK NX5032GA
pins: 1, 2

## NX5032GA-16.000M-STD-CSU-2
designator Y?, comment 16MHz
CRYSTAL 16.0000MHZ 8PF SMD; Part Number: NX5032GA-16.000M-STD-CSU-2; Manufacturer: NDK; Frequency Stability: 150ppm; Frequency Tolerance: 50ppm; ESR: 120 Ohm; Operating Mode: Fundamental; PartId: 8475; Supplier 1: Digi-Key; Supplier Part Number 1: 644-1135-2-ND; ComponentLink1Description: Datasheet; ComponentLink1URL: http://www.ndk.com/images/products/catalog/c_NX5032GA-STD-CSU-2_e.pdf; ComponentLink2Description: Digi-Key Listing; ComponentLink2URL: http://www.digikey.com/product-detail/en/NX5032GA-16.000M-STD-CSU-2/644-1135-2-ND/1788475; Price: 0.63; Type: MHz Crystal; Device Package: 2-SMD; Frequency: 16MHz; Load Capacitance: 8pF
footprint NDK NX5032GA
pins: 1, 2

## NX5032GA-16.000000MHZ-LN-CD-1
designator Y?, comment 16MHz
CRYSTAL 16.0000MHZ 8PF SMD; Part Number: NX5032GA-16.000000MHZ-LN-CD-1; Manufacturer: NDK; Frequency Stability: 50ppm; ESR: 120 Ohm; Operating Mode: Fundamental; PartId: 8466; Supplier 1: Digi-Key; Supplier Part Number 1: 644-1037-2-ND; ComponentLink1Description: Datasheet; ComponentLink1URL: http://media.digikey.com/pdf/Data%20Sheets/NDK%20PDFs/NX5032GA.pdf; ComponentLink2Description: Digi-Key Listing; ComponentLink2URL: http://www.digikey.com/product-detail/en/NX5032GA-16.000000MHZ-LN-CD-1/644-1037-2-ND/1128819; Price: 0.32; Type: MHz Crystal; Device Package: 2-SMD, No Lead (DFN, LCC); Frequency: 16MHz; Frequency Tolerance: 50ppm; Load Capacitance: 8pF
footprint NDK NX5032GA
pins: 1, 2

## NX5032GA-16MHZ-STD-CSK-8
designator Y?, comment 16MHz
CRYSTAL 16.0000MHZ 8PF SMD; Part Number: NX5032GA-16MHZ-STD-CSK-8; Manufacturer: NDK; Frequency Stability: 50ppm; Frequency Tolerance: 30ppm; ESR: 120 Ohm; Operating Mode: Fundamental; PartId: 8481; Supplier 1: Digi-Key; Supplier Part Number 1: 644-1188-2-ND; ComponentLink1Description: Datasheet; ComponentLink1URL: http://www.ndk.com/images/products/catalog/c_NX5032GA-STD-CSK-8_e.pdf; ComponentLink2Description: Digi-Key Listing; ComponentLink2URL: http://www.digikey.com/product-detail/en/NX5032GA-16MHZ-STD-CSK-8/644-1188-2-ND/3125647; Price: 0.375; Type: MHz Crystal; Device Package: 2-SMD, No Lead (DFN, LCC); Frequency: 16MHz; Load Capacitance: 8pF
footprint NDK NX5032GA
pins: 1, 2

## NX5032GA-20.000000MHZ-LN-CD-1
designator Y?, comment 20MHz
CRYSTAL 20.0000MHZ 8PF SMD; Part Number: NX5032GA-20.000000MHZ-LN-CD-1; Manufacturer: NDK; Frequency Stability: 50ppm; ESR: 70 Ohm; Operating Mode: Fundamental; PartId: 8469; Supplier 1: Digi-Key; Supplier Part Number 1: 644-1039-2-ND; ComponentLink1Description: Datasheet; ComponentLink1URL: http://media.digikey.com/pdf/Data%20Sheets/NDK%20PDFs/NX5032GA.pdf; ComponentLink2Description: Digi-Key Listing; ComponentLink2URL: http://www.digikey.com/product-detail/en/NX5032GA-20.000000MHZ-LN-CD-1/644-1039-2-ND/1128821; Price: 0.32; Type: MHz Crystal; Device Package: 2-SMD, No Lead (DFN, LCC); Frequency: 20MHz; Frequency Tolerance: 50ppm; Load Capacitance: 8pF
footprint NDK NX5032GA
pins: 1, 2

## NX5032GA-24.000000MHZ-LN-CD-1
designator Y?, comment 24MHz
CRYSTAL 24.0000MHZ 8PF SMD; Part Number: NX5032GA-24.000000MHZ-LN-CD-1; Manufacturer: NDK; Frequency Stability: 50ppm; ESR: 70 Ohm; Operating Mode: Fundamental; PartId: 8465; Supplier 1: Digi-Key; Supplier Part Number 1: 644-1040-2-ND; ComponentLink1Description: Datasheet; ComponentLink1URL: http://media.digikey.com/pdf/Data%20Sheets/NDK%20PDFs/NX5032GA.pdf; ComponentLink2Description: Digi-Key Listing; ComponentLink2URL: http://www.digikey.com/product-detail/en/NX5032GA-24.000000MHZ-LN-CD-1/644-1040-2-ND/1128822; Price: 0.32; Type: MHz Crystal; Device Package: 2-SMD, No Lead (DFN, LCC); Frequency: 24MHz; Frequency Tolerance: 50ppm; Load Capacitance: 8pF
footprint NDK NX5032GA
pins: 1, 2

## NX5032GA-25.000M-STD-CSK-4
designator Y?, comment 25MHz
CRYSTAL 25.0000MHZ 8PF SMD; Part Number: NX5032GA-25.000M-STD-CSK-4; Manufacturer: NDK; Frequency Stability: 30ppm; Frequency Tolerance: 20ppm; ESR: 50 Ohm; Operating Mode: Fundamental; PartId: 8479; Supplier 1: Digi-Key; Supplier Part Number 1: 644-1274-2-ND; ComponentLink1Description: Datasheet; ComponentLink1URL: http://www.ndk.com/images/products/catalog/c_NX5032GA-STD-CSK-4_e.pdf; ComponentLink2Description: Digi-Key Listing; ComponentLink2URL: http://www.digikey.com/product-detail/en/NX5032GA-25.000M-STD-CSK-4/644-1274-2-ND/5022977; Price: 0.3664; Type: MHz Crystal; Device Package: 2-SMD, No Lead (DFN, LCC); Frequency: 25MHz; Load Capacitance: 8pF
footprint NDK NX5032GA
pins: 1, 2

## NX5032GA-25.000000MHZ-LN-CD-1
designator Y?, comment 25MHz
CRYSTAL 25.0000MHZ 8PF SMD; Part Number: NX5032GA-25.000000MHZ-LN-CD-1; Manufacturer: NDK; Frequency Stability: 50ppm; ESR: 70 Ohm; Operating Mode: Fundamental; PartId: 8464; Supplier 1: Digi-Key; Supplier Part Number 1: 644-1041-2-ND; ComponentLink1Description: Datasheet; ComponentLink1URL: http://media.digikey.com/pdf/Data%20Sheets/NDK%20PDFs/NX5032GA.pdf; ComponentLink2Description: Digi-Key Listing; ComponentLink2URL: http://www.digikey.com/product-detail/en/NX5032GA-25.000000MHZ-LN-CD-1/644-1041-2-ND/1128823; Price: 0.32; Type: MHz Crystal; Device Package: 2-SMD, No Lead (DFN, LCC); Frequency: 25MHz; Frequency Tolerance: 50ppm; Load Capacitance: 8pF
footprint NDK NX5032GA
pins: 1, 2

## NX5032GA-27.000000MHZ-LN-CD-1
designator Y?, comment 27MHz
CRYSTAL 27.0000MHZ 8PF SMD; Part Number: NX5032GA-27.000000MHZ-LN-CD-1; Manufacturer: NDK; Frequency Stability: 50ppm; ESR: 70 Ohm; Operating Mode: Fundamental; PartId: 8468; Supplier 1: Digi-Key; Supplier Part Number 1: 644-1042-2-ND; ComponentLink1Description: Datasheet; ComponentLink1URL: http://media.digikey.com/pdf/Data%20Sheets/NDK%20PDFs/NX5032GA.pdf; ComponentLink2Description: Digi-Key Listing; ComponentLink2URL: http://www.digikey.com/product-detail/en/NX5032GA-27.000000MHZ-LN-CD-1/644-1042-2-ND/1128824; Price: 0.32; Type: MHz Crystal; Device Package: 2-SMD, No Lead (DFN, LCC); Frequency: 27MHz; Frequency Tolerance: 50ppm; Load Capacitance: 8pF
footprint NDK NX5032GA
pins: 1, 2

## NX5032GA-30.000000MHZ-LN-CD-1
designator Y?, comment 30MHz
CRYSTAL 30.0000MHZ 8PF SMD; Part Number: NX5032GA-30.000000MHZ-LN-CD-1; Manufacturer: NDK; Frequency Stability: 50ppm; ESR: 50 Ohm; Operating Mode: Fundamental; PartId: 8472; Supplier 1: Digi-Key; Supplier Part Number 1: 644-1043-2-ND; ComponentLink1Description: Datasheet; ComponentLink1URL: http://media.digikey.com/pdf/Data%20Sheets/NDK%20PDFs/NX5032GA.pdf; ComponentLink2Description: Digi-Key Listing; ComponentLink2URL: http://www.digikey.com/product-detail/en/NX5032GA-30.000000MHZ-LN-CD-1/644-1043-2-ND/1128825; Price: 0.32; Type: MHz Crystal; Device Package: 2-SMD, No Lead (DFN, LCC); Frequency: 30MHz; Frequency Tolerance: 50ppm; Load Capacitance: 8pF
footprint NDK NX5032GA
pins: 1, 2

## NX5032GA-32.000000MHZ-LN-CD-1
designator Y?, comment 32MHz
CRYSTAL 32.0000MHZ 8PF SMD; Part Number: NX5032GA-32.000000MHZ-LN-CD-1; Manufacturer: NDK; Frequency Stability: 50ppm; ESR: 50 Ohm; Operating Mode: Fundamental; PartId: 8476; Supplier 1: Digi-Key; Supplier Part Number 1: 644-1044-2-ND; ComponentLink1Description: Datasheet; ComponentLink1URL: http://media.digikey.com/pdf/Data%20Sheets/NDK%20PDFs/NX5032GA.pdf; ComponentLink2Description: Digi-Key Listing; ComponentLink2URL: http://www.digikey.com/product-detail/en/NX5032GA-32.000000MHZ-LN-CD-1/644-1044-2-ND/1128826; Price: 0.32; Type: MHz Crystal; Device Package: 2-SMD, No Lead (DFN, LCC); Frequency: 32MHz; Frequency Tolerance: 50ppm; Load Capacitance: 8pF
footprint NDK NX5032GA
pins: 1, 2

## NX5032GA-40.000000MHZ-LN-CD-1
designator Y?, comment 40MHz
CRYSTAL 40.0000MHZ 8PF SMD; Part Number: NX5032GA-40.000000MHZ-LN-CD-1; Manufacturer: NDK; Frequency Stability: 50ppm; ESR: 50 Ohm; Operating Mode: Fundamental; PartId: 8478; Supplier 1: Digi-Key; Supplier Part Number 1: 644-1045-2-ND; ComponentLink1Description: Datasheet; ComponentLink1URL: http://media.digikey.com/pdf/Data%20Sheets/NDK%20PDFs/NX5032GA.pdf; ComponentLink2Description: Digi-Key Listing; ComponentLink2URL: http://www.digikey.com/product-detail/en/NX5032GA-40.000000MHZ-LN-CD-1/644-1045-2-ND/1128827; Price: 0.32; Type: MHz Crystal; Device Package: 2-SMD, No Lead (DFN, LCC); Frequency: 40MHz; Frequency Tolerance: 50ppm; Load Capacitance: 8pF
footprint NDK NX5032GA
pins: 1, 2

## NX5032GA-48.000000MHZ-LN-CD-1
designator Y?, comment 48MHz
CRYSTAL 48.0000MHZ 8PF SMD; Part Number: NX5032GA-48.000000MHZ-LN-CD-1; Manufacturer: NDK; Frequency Stability: 50ppm; ESR: 50 Ohm; Operating Mode: Fundamental; PartId: 8471; Supplier 1: Digi-Key; Supplier Part Number 1: 644-1046-2-ND; ComponentLink1Description: Datasheet; ComponentLink1URL: http://media.digikey.com/pdf/Data%20Sheets/NDK%20PDFs/NX5032GA.pdf; ComponentLink2Description: Digi-Key Listing; ComponentLink2URL: http://www.digikey.com/product-detail/en/NX5032GA-48.000000MHZ-LN-CD-1/644-1046-2-ND/1128828; Price: 0.32; Type: MHz Crystal; Device Package: 2-SMD, No Lead (DFN, LCC); Frequency: 48MHz; Frequency Tolerance: 50ppm; Load Capacitance: 8pF
footprint NDK NX5032GA
pins: 1, 2

## NX8045GB-5MHZ-STD-CSF-3
designator Y?, comment 5MHz
CRYSTAL 5.0000MHZ 8PF SMD; Part Number: NX8045GB-5MHZ-STD-CSF-3; Manufacturer: NDK; Frequency Stability: 30ppm; Frequency Tolerance: 20ppm; ESR: 250 Ohm; Operating Mode: Fundamental; PartId: 8862; Supplier 1: Digi-Key; Supplier Part Number 1: 644-1202-2-ND; ComponentLink1Description: Datasheet; ComponentLink1URL: http://www.ndk.com/images/products/catalog/c_NX8045GB-STD-CSF-4_e.pdf; ComponentLink2Description: Digi-Key Listing; ComponentLink2URL: https://www.digikey.com/product-detail/en/NX8045GB-5MHZ-STD-CSF-3/644-1202-2-ND/3894078; Price: 0.2992; Type: MHz Crystal; Device Package: 2-SMD, No Lead (DFN, LCC); Series: NX8045GB; Frequency: 5MHz; Load Capacitance: 8pF
footprint NDK NX8045GB
pins: 1, 2

## NX8045GB-6MHZ-STD-CSF-3
designator Y?, comment 6MHz
CRYSTAL 6.0000MHZ 8PF SMD; Part Number: NX8045GB-6MHZ-STD-CSF-3; Manufacturer: NDK; Frequency Stability: 30ppm; Frequency Tolerance: 20ppm; ESR: 250 Ohm; Operating Mode: Fundamental; PartId: 8871; Supplier 1: Digi-Key; Supplier Part Number 1: 644-1203-2-ND; ComponentLink1Description: Datasheet; ComponentLink1URL: http://www.ndk.com/images/products/catalog/c_NX8045GB-STD-CSF-4_e.pdf; ComponentLink2Description: Digi-Key Listing; ComponentLink2URL: https://www.digikey.com/product-detail/en/NX8045GB-6MHZ-STD-CSF-3/644-1203-2-ND/3894077; Price: 0.2992; Type: MHz Crystal; Device Package: 2-SMD, No Lead (DFN, LCC); Series: NX8045GB; Frequency: 6MHz; Load Capacitance: 8pF
footprint NDK NX8045GB
pins: 1, 2

## NX8045GB-7.5MHZ-STD-CSF-4
designator Y?, comment 7.5MHz
CRYSTAL 7.5000MHZ 8PF SMD; Part Number: NX8045GB-7.5MHZ-STD-CSF-4; Manufacturer: NDK; Frequency Stability: 30ppm; Frequency Tolerance: 20ppm; ESR: 250 Ohm; Operating Mode: Fundamental; PartId: 8867; Supplier 1: Digi-Key; Supplier Part Number 1: 644-1205-2-ND; ComponentLink1Description: Datasheet; ComponentLink1URL: http://www.ndk.com/images/products/catalog/c_NX8045GB-STD-CSF-4_e.pdf; ComponentLink2Description: Digi-Key Listing; ComponentLink2URL: https://www.digikey.com/product-detail/en/NX8045GB-7.5MHZ-STD-CSF-4/644-1205-2-ND/3894075; Price: 0.2992; Type: MHz Crystal; Device Package: 2-SMD, No Lead (DFN, LCC); Series: NX8045GB; Frequency: 7.5MHz; Load Capacitance: 8pF
footprint NDK NX8045GB
pins: 1, 2

## NX8045GB-7.3728MHZ-STD-CSF-3
designator Y?, comment 7.3728MHz
CRYSTAL 7.3728MHZ 8PF SMD; Part Number: NX8045GB-7.3728MHZ-STD-CSF-3; Manufacturer: NDK; Frequency Stability: 30ppm; Frequency Tolerance: 20ppm; ESR: 250 Ohm; Operating Mode: Fundamental; PartId: 8861; Supplier 1: Digi-Key; Supplier Part Number 1: 644-1204-2-ND; ComponentLink1Description: Datasheet; ComponentLink1URL: http://www.ndk.com/images/products/catalog/c_NX8045GB-STD-CSF-4_e.pdf; ComponentLink2Description: Digi-Key Listing; ComponentLink2URL: https://www.digikey.com/product-detail/en/NX8045GB-7.3728MHZ-STD-CSF-3/644-1204-2-ND/3894076; Price: 0.2992; Type: MHz Crystal; Device Package: 2-SMD, No Lead (DFN, LCC); Series: NX8045GB; Frequency: 7.3728MHz; Load Capacitance: 8pF
footprint NDK NX8045GB
pins: 1, 2

## NX8045GB-8.000M-STD-CSJ-1
designator Y?, comment 8MHz
CRYSTAL 8.0000MHZ 8PF SMD; Part Number: NX8045GB-8.000M-STD-CSJ-1; Manufacturer: NDK; Frequency Stability: 150ppm; Frequency Tolerance: 50ppm; ESR: 220 Ohm; Operating Mode: Fundamental; PartId: 8865; Supplier 1: Digi-Key; Supplier Part Number 1: 644-1206-2-ND; ComponentLink1Description: Datasheet; ComponentLink1URL: http://www.ndk.com/images/products/catalog/c_NX8045GB-STD-CSJ-1_e.pdf; ComponentLink2Description: Digi-Key Listing; ComponentLink2URL: https://www.digikey.com/product-detail/en/NX8045GB-8.000M-STD-CSJ-1/644-1206-2-ND/2709615; Price: 0.3888; Type: MHz Crystal; Device Package: 2-SMD, No Lead (DFN, LCC); Series: NX8045GB; Frequency: 8MHz; Load Capacitance: 8pF
footprint NDK NX8045GB
pins: 1, 2